# EAGLE library part ICL3222CBZ (library Intersil_By_element14_Batch_1)
RS-232 Transmitters/Receivers
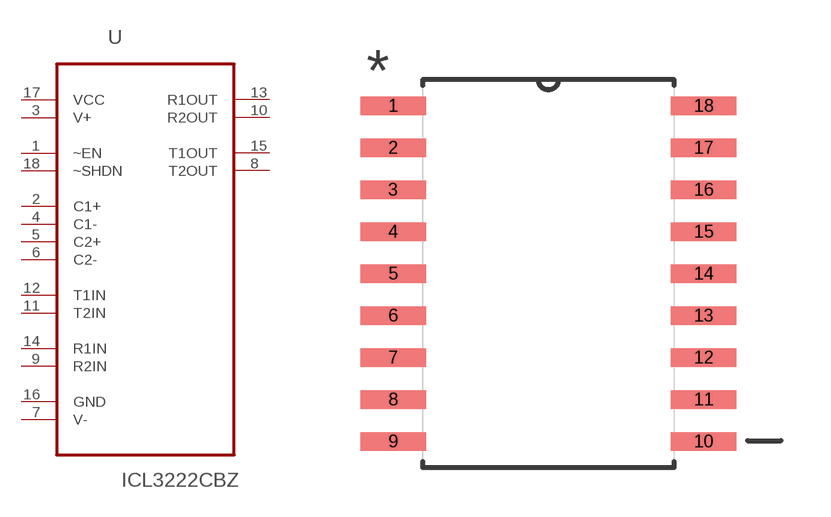
[diagram p164: symbol with the pads of SOIC127P1032X265-18N; footprint SOIC127P1032X265-18N]

Designator prefix U

## ICL3222CBZ (MPN: ICL3222CBZ; OC_FARNELL: 9663940; OC_NEWARK: 24M2868; PACKAGE: SOIC-18; SUPPLIER: Intersil)  [SOIC127P1032X265-18N]
1  ~EN  in
2  C1+  in
3  V+  in
4  C1-  in
5  C2+  in
6  C2-  in
7  V-  in
8  T2OUT  out
9  R2IN  in
10  R2OUT  out
11  T2IN  in
12  T1IN  in
13  R1OUT  out
14  R1IN  in
15  T1OUT  out
16  GND  pas
17  VCC  pwr
18  ~SHDN  in

## Footprint SOIC127P1032X265-18N (pad centres in mm)
smd 1.981 x 0.559: 1 -4.699,5.08; 2 -4.699,3.81; 3 -4.699,2.54; 4 -4.699,1.27; 5 -4.699,0; 6 -4.699,-1.27; 7 -4.699,-2.54; 8 -4.699,-3.81; 9 -4.699,-5.08; 10 4.699,-5.08; 11 4.699,-3.81; 12 4.699,-2.54; 13 4.699,-1.27; 14 4.699,0; 15 4.699,1.27; 16 4.699,2.54; 17 4.699,3.81; 18 4.699,5.08